# EAGLE library part RN42XV (library PEGMA)
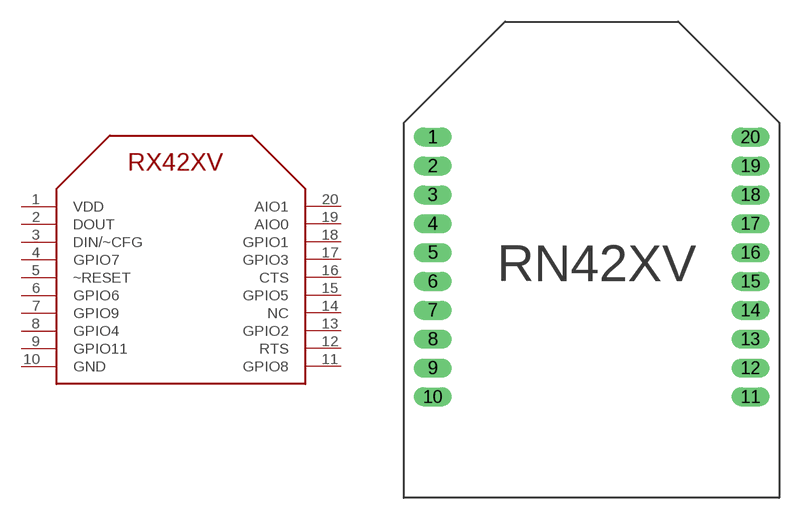
[diagram p13: symbol with the pads of RN42XV; footprint RN42XV]

Designator prefix -

## RN42XV  [RN42XV]
1  VDD
2  DOUT
3  DIN/~CFG
4  GPIO7
5  ~RESET
6  GPIO6
7  GPIO9
8  GPIO4
9  GPIO11
10  GND
11  GPIO8
12  RTS
13  GPIO2
14  NC
15  GPIO5
16  CTS
17  GPIO3
18  GPIO1
19  AIO0
20  AIO1

## Footprint RN42XV (pad centres in mm)
drill 0.813 long: 1 -11,9.27; 2 -11,7.27; 3 -11,5.27; 4 -11,3.27; 5 -11,1.27; 6 -11,-0.73; 7 -11,-2.73; 8 -11,-4.73; 9 -11,-6.73; 10 -11,-8.73; 11 11,-8.73; 12 11,-6.73; 13 11,-4.73; 14 11,-2.73; 15 11,-0.73; 16 11,1.27; 17 11,3.27; 18 11,5.27; 19 11,7.27; 20 11,9.27